# Altium schematic symbol library HDR_2POS.SchLib: 1 symbol
Pins are listed as number, name and electrical type; pins without a type are passive.

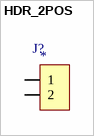
[diagram p0: symbol HDR_2POS]

## HDR_2POS
designator J?
Manufacturer Part Number: *
pins: 1, 2